# Altium footprint library HgLib.PcbLib: 86 footprints (part 5 of 6)
Each footprint in its own frame and in the unit in brackets; x right, y up, seen from the top. Pads: shape width x height; smd on the part's side, far side on the other; paste and mask are expansions set on the pad; w line width, h text height; cw(c..) or ccw(c..) is an arc to the next point about the centre after c.
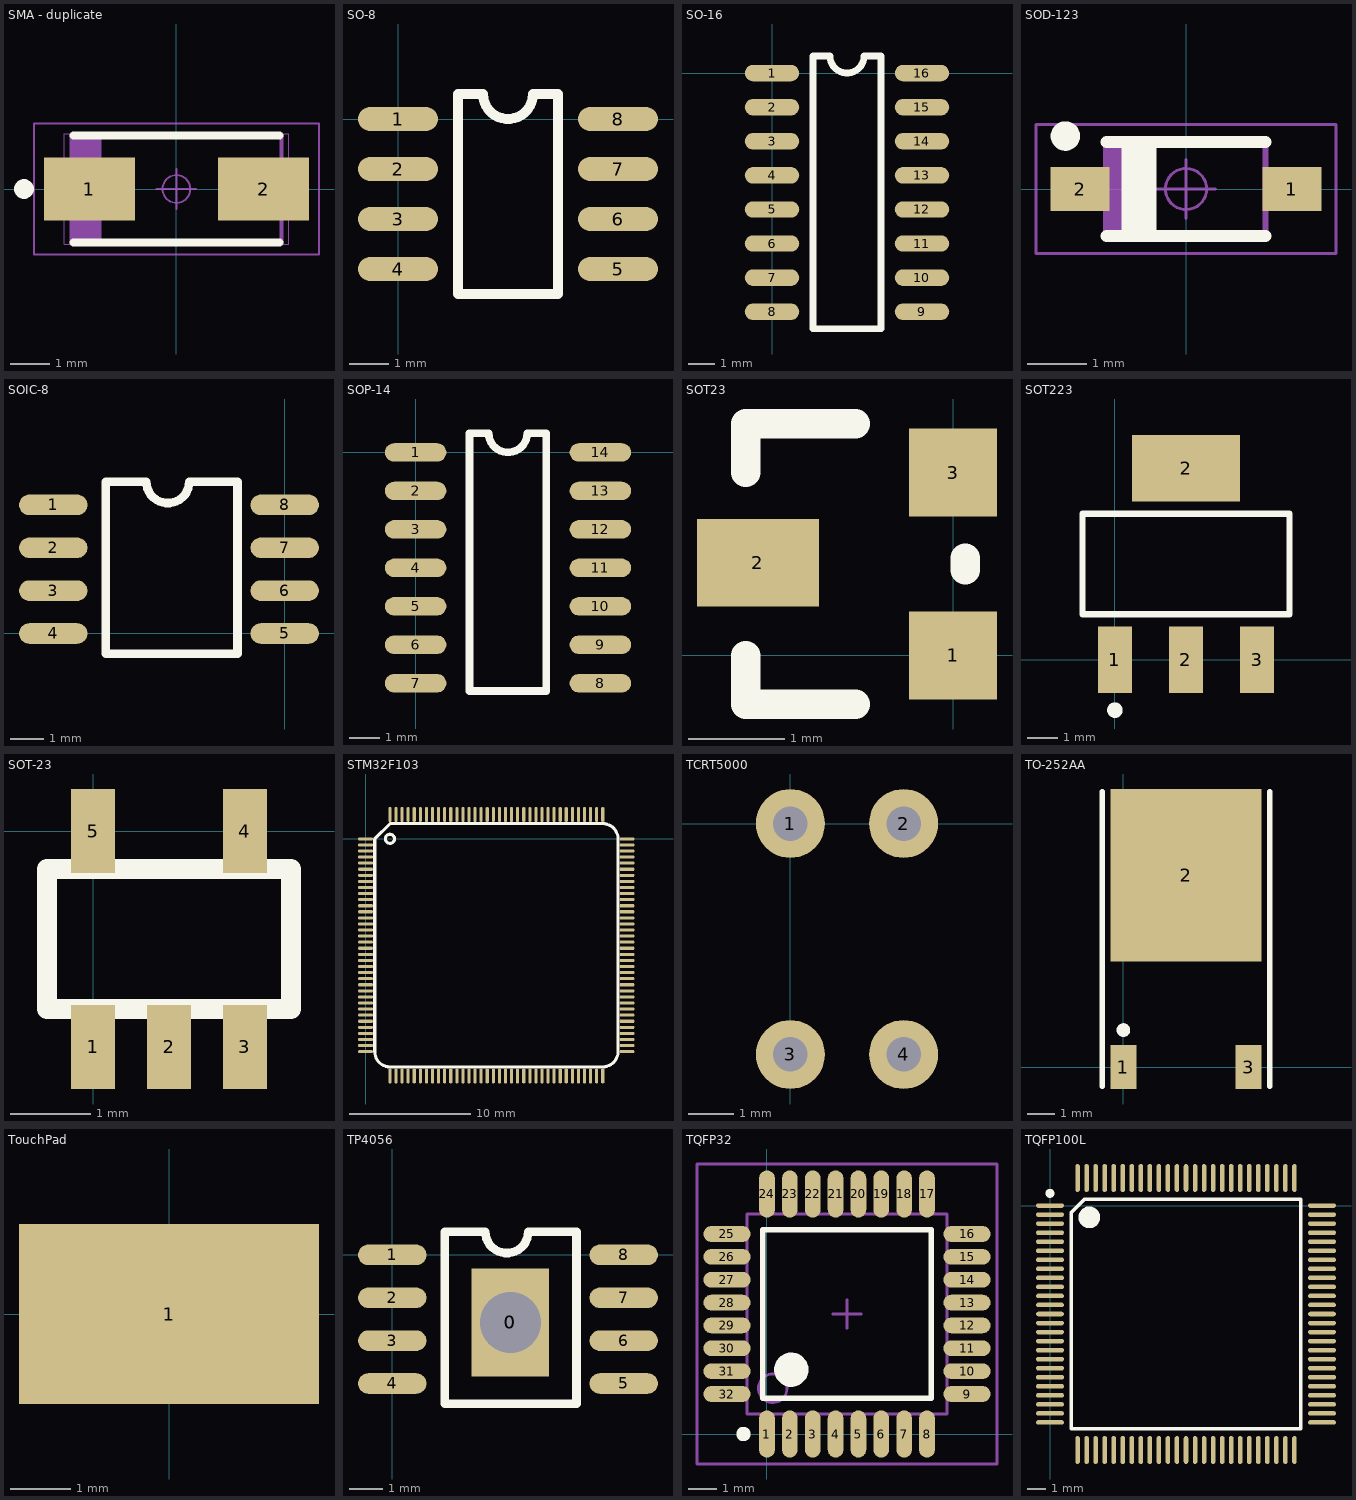
[diagram p4: the footprints below, top view; thin cyan lines are the x and y axes]

## SMA - duplicate [mm]
pads (2):
  rect 2.3x1.6 smd: 1(-2.2,0) 2(2.2,0)
Top Overlay:
  circle w0.25: c-3.85,0 r0.125
  lines w0.2: -2.6,-1.35 2.6,-1.35 ; -2.6,1.35 2.6,1.35
Mechanical 15:
  lines w0.1: -2.548,-1.335 -2.548,1.335 ; -2.448,-1.335 -2.448,1.335 ; -2.348,-1.335 -2.348,1.335 ; -2.248,-1.335 -2.248,1.335 ; -2.148,-1.335 -2.148,1.335 ; -2.047,-1.335 -2.047,1.335 ; -1.948,-1.335 -1.948,1.335 ; -2.648,-1.335 -2.648,1.335 2.648,1.335 2.648,-1.335 -2.648,-1.335
Mechanical 16:
  circle w0.05: c0,0 r0.35
  lines w0.001: -2.83,-1.4 -2.83,1.4 2.83,1.4 2.83,-1.4 -2.83,-1.4
  lines w0.05: -0.5,0 0.5,0 ; 0,-0.5 0,0.5 ; -3.6,-1.65 -3.6,1.65 3.6,1.65 3.6,-1.65 -3.6,-1.65

## SO-8 [mil]
pads (8):
  oval 80x24 smd mask+4: 1(0,0) 2(0,-50) 3(0,-100) 4(0,-150) 5(220,-150) 6(220,-100) 7(220,-50) 8(220,0)
Top Overlay:
  lines w10: 60,-175 60,25 85,25 ccw(c110,25) 135,25 160,25 160,-175 60,-175

## SO-16 [mil]
pads (16):
  oval 80x24 smd mask+4: 1(0,0) 2(0,-50) 3(0,-100) 4(0,-150) 5(0,-200) 6(0,-250) 7(0,-300) 8(0,-350) 9(220,-350) 10(220,-300) 11(220,-250) 12(220,-200) 13(220,-150) 14(220,-100) 15(220,-50) 16(220,0)
Top Overlay:
  lines w10: 60,-375 160,-375 160,25 135,25 cw(c110,25) 85,25 60,25 60,-375

## SOD-123 [mm]
pads (2):
  rect 1x0.75 smd: 1(1.8,0) 2(-1.8,0)
Top Overlay:
  circle w0.25: c-2.05,0.9 r0.125
  lines w0.2: -1.35,-0.8 1.35,-0.8 ; -1.35,0.8 1.35,0.8 ; -1,-0.8 -1,0.8 ; -0.8,-0.8 -0.8,0.8 ; -0.6,-0.8 -0.6,0.8
Mechanical 15:
  lines w0.1: -1.25,-0.8 -1.25,0.8 ; -1.15,-0.8 -1.15,0.8 ; -1.05,-0.8 -1.05,0.8 ; -0.95,-0.8 -0.95,0.8 ; -0.85,-0.8 -0.85,0.8 ; -0.75,-0.8 -0.75,0.8 ; -0.65,-0.8 -0.65,0.8 ; -1.35,-0.8 1.35,-0.8 1.35,0.8 -1.35,0.8 -1.35,-0.8
  text "1" at 0.45,-0.164 h0.75
Mechanical 16:
  circle w0.05: c0,0 r0.35
  lines w0.001: -1.4,-0.85 1.4,-0.85 1.4,0.85 -1.4,0.85 -1.4,-0.85
  lines w0.05: -0.5,0 0.5,0 ; 0,-0.5 0,0.5 ; -2.55,-1.1 2.55,-1.1 2.55,1.1 -2.55,1.1 -2.55,-1.1

## SOIC-8 [mil]
pads (8):
  oval 80x24 smd mask+4: 1(-270,150) 2(-270,100) 3(-270,50) 4(-270,0) 5(0,0) 6(0,50) 7(0,100) 8(0,150)
Top Overlay:
  lines w10: -208.66,-23.62 -55.12,-23.62 -55.12,177.16 -110.24,177.16 ; -208.66,-22.84 -208.66,177.16 ; -206.1,177.16 -161.42,177.16 ccw(c-136.42,177.16) -111.42,177.16

## SOP-14 [mil]
pads (14):
  oval 80x24 smd mask+4: 1(0,0) 2(0,-50) 3(0,-100) 4(0,-150) 5(0,-200) 6(0,-250) 7(0,-300) 8(240.16,-300) 9(240.16,-250) 10(240.16,-200) 11(240.16,-150) 12(240.16,-100) 13(240.16,-50) 14(240.16,0)
Top Overlay:
  lines w10: 70,-310 170,-310 170,25 145,25 cw(c120,25) 95,25 70,25 70,-310

## SOT23 [mil]
pads (3):
  rect 36x36 smd mask+4: 1(0,0) 3(0,75)
  rect 50x36 smd mask+4: 2(-80,38)
Top Overlay:
  lines w12: -85,0 -85,-20 -40,-20 ; -85,75 -85,95 -40,95 ; 5,35 5,40

## SOT223 [mm]
pads (4):
  rect 1.1x2.15 smd: 1(0,0) 2(2.3,0) 3(4.6,0)
  rect 3.5x2.15 smd: 2(2.3,6.2)
Top Overlay:
  circle w0.25: c0,-1.625 r0.125
  lines w0.2: -1.05,1.475 -1.05,4.725 5.65,4.725 5.65,1.475 -1.05,1.475

## SOT-23 [mm]
pads (5):
  rect 0.55x1.05 smd mask+0.07: 1(0,-2.7) 2(0.95,-2.7) 3(1.9,-2.7) 4(1.9,0) 5(0,0)
Top Overlay:
  lines w0.254: -0.575,-2.225 2.475,-2.225 2.475,-0.475 -0.575,-0.475 -0.575,-2.225

## STM32F103 [mm]
pads (144):
  oct 1.25x0.254 smd mask+0.102: 1(0,0) 2(0,-0.5) 3(0,-1) 4(0,-1.5) 5(0,-2) 6(0,-2.5) 7(0,-3) 8(0,-3.5) 9(0,-4) 10(0,-4.5) 11(0,-5) 12(0,-5.5) 13(0,-6) 14(0,-6.5) 15(0,-7) 16(0,-7.5) 17(0,-8) 18(0,-8.5) 19(0,-9) 20(0,-9.5) 21(0,-10) 22(0,-10.5) 23(0,-11) 24(0,-11.5) 25(0,-12) 26(0,-12.5) 27(0,-13) 28(0,-13.5) 29(0,-14) 30(0,-14.5) 31(0,-15) 32(0,-15.5) 33(0,-16) 34(0,-16.5) 35(0,-17) 36(0,-17.5) 73(21.5,-17.5) 74(21.5,-17) 75(21.5,-16.5) 76(21.5,-16) 77(21.5,-15.5) 78(21.5,-15) 79(21.5,-14.5) 80(21.5,-14) 81(21.5,-13.5) 82(21.5,-13) 83(21.5,-12.5) 84(21.5,-12) 85(21.5,-11.5) 86(21.5,-11) 87(21.5,-10.5) 88(21.5,-10) 89(21.5,-9.5) 90(21.5,-9) 91(21.5,-8.5) 92(21.5,-8) 93(21.5,-7.5) 94(21.5,-7) 95(21.5,-6.5) 96(21.5,-6) 97(21.5,-5.5) 98(21.5,-5) 99(21.5,-4.5) 100(21.5,-4) 101(21.5,-3.5) 102(21.5,-3) 103(21.5,-2.5) 104(21.5,-2) 105(21.5,-1.5) 106(21.5,-1) 107(21.5,-0.5) 108(21.5,0)
  oct 0.254x1.25 smd mask+0.102: 37(2,-19.5) 38(2.5,-19.5) 39(3,-19.5) 40(3.5,-19.5) 41(4,-19.5) 42(4.5,-19.5) 43(5,-19.5) 44(5.5,-19.5) 45(6,-19.5) 46(6.5,-19.5) 47(7,-19.5) 48(7.5,-19.5) 49(8,-19.5) 50(8.5,-19.5) 51(9,-19.5) 52(9.5,-19.5) 53(10,-19.5) 54(10.5,-19.5) 55(11,-19.5) 56(11.5,-19.5) 57(12,-19.5) 58(12.5,-19.5) 59(13,-19.5) 60(13.5,-19.5) 61(14,-19.5) 62(14.5,-19.5) 63(15,-19.5) 64(15.5,-19.5) 65(16,-19.5) 66(16.5,-19.5) 67(17,-19.5) 68(17.5,-19.5) 69(18,-19.5) 70(18.5,-19.5) 71(19,-19.5) 72(19.5,-19.5) 109(19.5,2) 110(19,2) 111(18.5,2) 112(18,2) 113(17.5,2) 114(17,2) 115(16.5,2) 116(16,2) 117(15.5,2) 118(15,2) 119(14.5,2) 120(14,2) 121(13.5,2) 122(13,2) 123(12.5,2) 124(12,2) 125(11.5,2) 126(11,2) 127(10.5,2) 128(10,2) 129(9.5,2) 130(9,2) 131(8.5,2) 132(8,2) 133(7.5,2) 134(7,2) 135(6.5,2) 136(6,2) 137(5.5,2) 138(5,2) 139(4.5,2) 140(4,2) 141(3.5,2) 142(3,2) 143(2.5,2) 144(2,2)
Top Overlay:
  circle w0.254: c2,0 r0.375
  lines w0.254: 0.75,-17.5 ccw(c2,-17.5) 2,-18.75 19.5,-18.75 ccw(c19.5,-17.5) 20.75,-17.5 20.75,0 ccw(c19.5,0) 19.5,1.25 2,1.25 0.75,0 0.75,-17.5

## TCRT5000 [mil]
pads (4):
  round 60 / inner round 0 / far side round 0 hole 30: 1(0,0) 2(98.43,0) 3(0,-200.79) 4(98.43,-200.79)

## TO-252AA [mm] "D-PAK/TO-252-AA; 3 Leads (1 Cropped); Body 10.2 (inc. leads) x 6.7 mm (LxW max)"
height 2.38
pads (3):
  rect 0.95x1.6 smd: 1(0,0) 3(4.57,0)
  rect 5.5x6.3 smd: 2(2.285,7)
Top Overlay:
  circle w0.25: c0,1.35 r0.125
  lines w0.2: -0.775,-0.7 -0.775,10.05 ; 5.345,-0.7 5.345,10.05

## TouchPad [mm]
pads (1):
  rect 5x3 smd: 1(0,0)

## TP4056 [mil]
pads (10):
  rect 90.55x125.98 smd: 0(137.8,-78.74)
  round 78.74 hole 70.87: 0(137.8,-78.74)
  oval 80x24 smd mask+4: 1(0,0) 2(0,-50) 3(0,-100) 4(0,-150) 5(270,-150) 6(270,-100) 7(270,-50) 8(270,0)
Top Overlay:
  lines w10: 61.34,-173.62 214.88,-173.62 214.88,27.16 159.76,27.16 ; 61.34,-172.84 61.34,27.16 ; 63.9,27.16 108.58,27.16 ccw(c133.58,27.16) 158.58,27.16

## TQFP32 [mm]
pads (32):
  oval 0.55x1.65 smd: 1(0,0) 2(0.8,0) 3(1.6,0) 4(2.4,0) 5(3.2,0) 6(4,0) 7(4.8,0) 8(5.6,0) 17(5.6,8.4) 18(4.8,8.4) 19(4,8.4) 20(3.2,8.4) 21(2.4,8.4) 22(1.6,8.4) 23(0.8,8.4) 24(0,8.4)
  oval 1.65x0.55 smd: 9(7,1.4) 10(7,2.2) 11(7,3) 12(7,3.8) 13(7,4.6) 14(7,5.4) 15(7,6.2) 16(7,7) 25(-1.4,7) 26(-1.4,6.2) 27(-1.4,5.4) 28(-1.4,4.6) 29(-1.4,3.8) 30(-1.4,3) 31(-1.4,2.2) 32(-1.4,1.4)
Top Overlay:
  circle w0.6: c0.85,2.25 r0.3
  circle w0.25: c-0.825,0 r0.125
  lines w0.2: -0.15,1.25 -0.15,7.15 5.75,7.15 5.75,1.25 -0.15,1.25
Mechanical 13:
  circle w0.1: c0.2,1.6 r0.5
  lines w0.1: -0.7,0.7 6.3,0.7 6.3,7.7 -0.7,7.7 -0.7,0.7
Mechanical 15:
  lines w0.1: 2.3,4.2 3.3,4.2 ; 2.8,3.7 2.8,4.7 ; -2.45,-1.05 8.05,-1.05 8.05,9.45 -2.45,9.45 -2.45,-1.05
3D body: height 1.2, standoff 0, extent -0.7,0.7 6.3,7.7

## TQFP100L [mm]
pads (100):
  oval 1.55x0.25 smd mask+0.051: 1(0,0) 2(0,-0.5) 3(0,-1) 4(0,-1.5) 5(0,-2) 6(0,-2.5) 7(0,-3) 8(0,-3.5) 9(0,-4) 10(0,-4.5) 11(0,-5) 12(0,-5.5) 13(0,-6) 14(0,-6.5) 15(0,-7) 16(0,-7.5) 17(0,-8) 18(0,-8.5) 19(0,-9) 20(0,-9.5) 21(0,-10) 22(0,-10.5) 23(0,-11) 24(0,-11.5) 25(0,-12) 51(15.05,-12) 52(15.05,-11.5) 53(15.05,-11) 54(15.05,-10.5) 55(15.05,-10) 56(15.05,-9.5) 57(15.05,-9) 58(15.05,-8.5) 59(15.05,-8) 60(15.05,-7.5) 61(15.05,-7) 62(15.05,-6.5) 63(15.05,-6) 64(15.05,-5.5) 65(15.05,-5) 66(15.05,-4.5) 67(15.05,-4) 68(15.05,-3.5) 69(15.05,-3) 70(15.05,-2.5) 71(15.05,-2) 72(15.05,-1.5) 73(15.05,-1) 74(15.05,-0.5) 75(15.05,0)
  oval 0.25x1.55 smd mask+0.051: 26(1.525,-13.525) 27(2.025,-13.525) 28(2.525,-13.525) 29(3.025,-13.525) 30(3.525,-13.525) 31(4.025,-13.525) 32(4.525,-13.525) 33(5.025,-13.525) 34(5.525,-13.525) 35(6.025,-13.525) 36(6.525,-13.525) 37(7.025,-13.525) 38(7.525,-13.525) 39(8.025,-13.525) 40(8.525,-13.525) 41(9.025,-13.525) 42(9.525,-13.525) 43(10.025,-13.525) 44(10.525,-13.525) 45(11.025,-13.525) 46(11.525,-13.525) 47(12.025,-13.525) 48(12.525,-13.525) 49(13.025,-13.525) 50(13.525,-13.525) 76(13.525,1.525) 77(13.025,1.525) 78(12.525,1.525) 79(12.025,1.525) 80(11.525,1.525) 81(11.025,1.525) 82(10.525,1.525) 83(10.025,1.525) 84(9.525,1.525) 85(9.025,1.525) 86(8.525,1.525) 87(8.025,1.525) 88(7.525,1.525) 89(7.025,1.525) 90(6.525,1.525) 91(6.025,1.525) 92(5.525,1.525) 93(5.025,1.525) 94(4.525,1.525) 95(4.025,1.525) 96(3.525,1.525) 97(3.025,1.525) 98(2.525,1.525) 99(2.025,1.525) 100(1.525,1.525)
Top Overlay:
  circle w0.25: c0,0.675 r0.125
  circle w0.6: c2.175,-0.65 r0.3
  lines w0.2: 1.175,-12.35 13.875,-12.35 13.875,0.35 1.905,0.35 1.175,-0.38 1.175,-12.35